# Altium footprint library PcbLib1.PcbLib: 1 footprints
Each footprint in its own frame and in the unit in brackets; x right, y up, seen from the top. Pads: shape width x height; smd on the part's side, far side on the other; paste and mask are expansions set on the pad; w line width, h text height; cw(c..) or ccw(c..) is an arc to the next point about the centre after c.
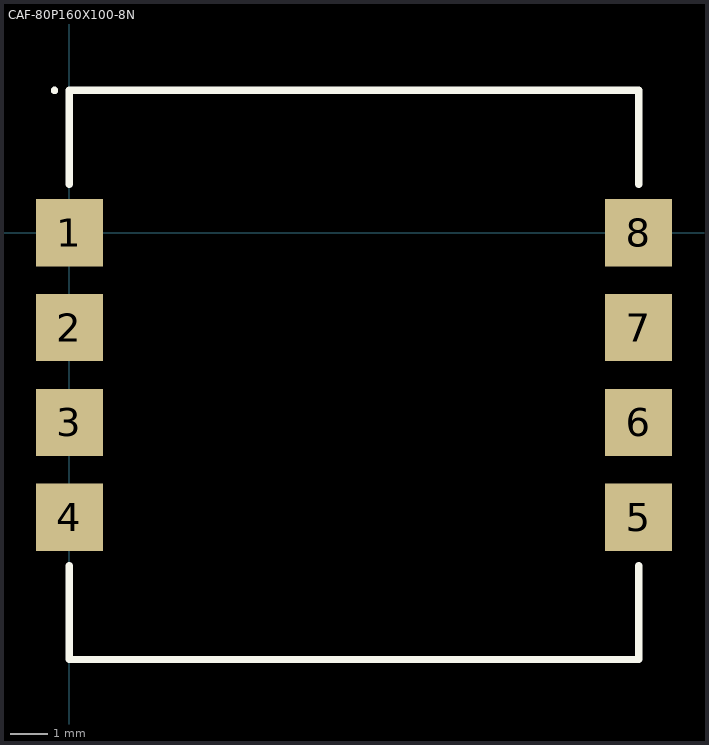
[diagram p0: the footprint, top view; thin cyan lines are the x and y axes]

## CAF-80P160X100-8N [mm]
height 1
pads (8):
  rect 1.8x1.8 smd: 1(0,0) 2(0,-2.54) 3(0,-5.08) 4(0,-7.62) 5(15.24,-7.62) 6(15.24,-5.08) 7(15.24,-2.54) 8(15.24,0)
Top Overlay:
  circle w0.1: c-0.4,3.81 r0.05
  lines w0.2: 0,-8.92 0,-11.43 15.24,-11.43 15.24,-8.92 ; 0,1.3 0,3.81 15.24,3.81 15.24,1.3
3D body: height 1, standoff 0, extent 0,-11.43 15.24,3.81